# EAGLE library part MOLEX-53261-0671 (library SchlegelAr_Master)
MOLEX-53261-0671 - Molex picoblade 53261-0671 6 pol last modified: Armin Schlegel, 28.04.2014 http://de.mouser.com/ProductDetail/Molex/53261-0671/?qs=%2Fha2pyFadujL8XqTNrjzA%2Fy0AZso5hx2IWE7X8dEAdsn1tpb%2FKahAA%3D%3D http://www.mouser.com/ds/2/276/0532610671_PCB_HEADERS-170915.pdf
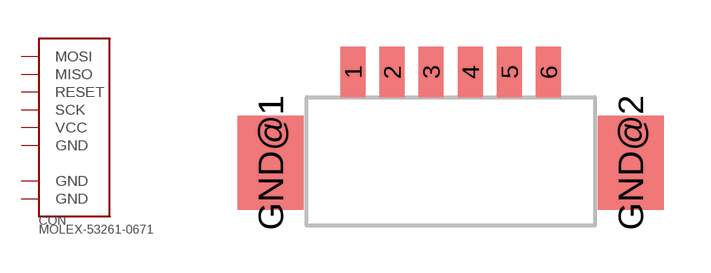
[diagram p5: symbol with the pads of MOLEX-53261-0671; footprint MOLEX-53261-0671]

Designator prefix CON

## MOLEX-53261-0671  [MOLEX-53261-0671]
1  MOSI
2  MISO
3  RESET
4  SCK
5  VCC
6  GND
GND@1  GND  pwr
GND@2  GND  pwr

## Footprint MOLEX-53261-0671 (pad centres in mm)
smd 0.8 x 1.6: 1 -3.125,2.55; 2 -1.875,2.55; 3 -0.625,2.55; 4 0.625,2.55; 5 1.875,2.55; 6 3.125,2.55
smd 2.1 x 3: GND@1 -5.75,-0.35; GND@2 5.75,-0.35